# Altium schematic symbol library XBP24CAUIT-001.SchLib: 1 symbol
Pins are listed as number, name and electrical type; pins without a type are passive.

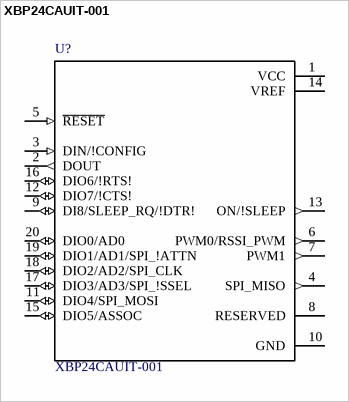
[diagram p0: symbol XBP24CAUIT-001]

## XBP24CAUIT-001
designator U?
/ 802.15.4 Transceiver Module 2.4GHz Antenna Not Included, U.FL Through Hole /; MF: Digi International; SnapEDA_Link: https://www.snapeda.com/parts/XBP24CAUIT-001/Digi%20International/view-part/1219456/?ref=snap; Availability: Unavailable; Price: None; Package: Module Digi International; MP: XBP24CAUIT-001; Value: *
footprint *MODULE_XBP24CAUIT-001
pins: 1 VCC (power), 2 DOUT (out), 3 DIN/!CONFIG (in), 4 SPI_MISO (out), 5 ~{RESET} (in), 6 PWM0/RSSI_PWM (out), 7 PWM1 (out), 8 RESERVED, 9 DI8/SLEEP_RQ/!DTR! (io), 10 GND (power), 11 DIO4/SPI_MOSI (io), 12 DIO7/!CTS! (io), 13 ON/!SLEEP (out), 14 VREF (power), 15 DIO5/ASSOC (io), 16 DIO6/!RTS! (io), 17 DIO3/AD3/SPI_!SSEL (io), 18 DIO2/AD2/SPI_CLK (io), 19 DIO1/AD1/SPI_!ATTN (io), 20 DIO0/AD0 (io)